# Altium footprint library LIB9封装1.PcbLib: 4 footprints
Each footprint in its own frame and in the unit in brackets; x right, y up, seen from the top. Pads: shape width x height; smd on the part's side, far side on the other; paste and mask are expansions set on the pad; w line width, h text height; cw(c..) or ccw(c..) is an arc to the next point about the centre after c.
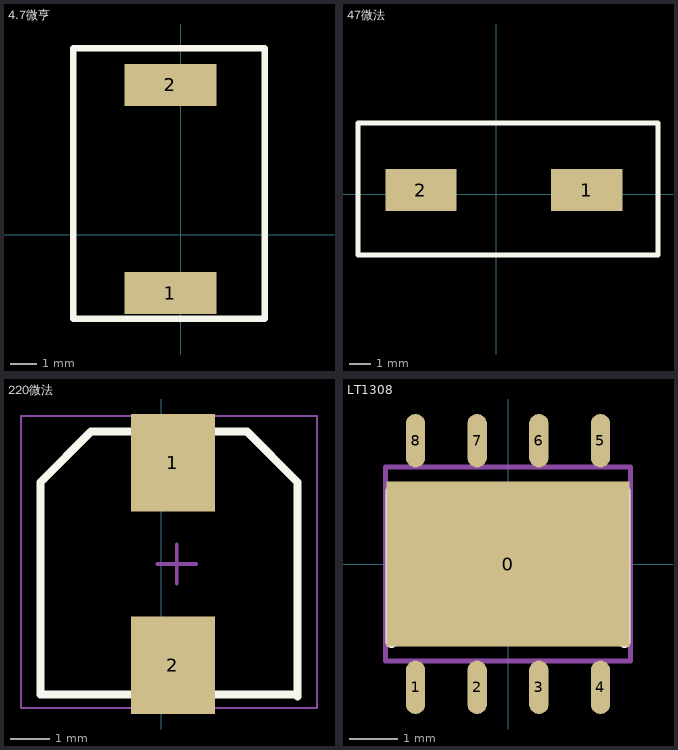
[diagram p0: the footprints below, top view; thin cyan lines are the x and y axes]

## 4.7微亨 [mm]
pads (2):
  rect 3.5x1.6 smd: 1(-0.4,-2.225) 2(-0.4,5.7)
Top Overlay:
  lines w0.254: -4.1,-3.2 -4.1,7.1 -2.275,7.1 1.375,7.1 3.2,7.1 3.2,-3.2 -4.1,-3.2

## 47微法 [mm]
pads (2):
  rect 3.4x2 smd: 1(4.3,0.2) 2(-3.6,0.2)
Top Overlay:
  lines w0.254: -6.6,-2.9 7.7,-2.9 7.7,3.4 -6.6,3.4 -6.6,-2.9

## 220微法 [mm] "Aluminum Electrolytic Capacitor, Body 4.30x4.30x6.30mm, IPC Low Density"
height 6.3
pads (2):
  rect 2.15x2.5 smd: 1(0.3,9.3) 2(0.3,4.1)
Top Overlay:
  lines w0.2: 3.5,3.3 3.5,8.8 2.2,10.1 -1.8,10.1 -3.1,8.8 -3.1,3.35 3.5,3.35
Mechanical 15:
  lines w0.05: -3.6,3 -3.6,10.5 4,10.5 4,3 -3.6,3
  lines w0.1: -0.1,6.7 0.9,6.7 ; 0.4,6.2 0.4,7.2
3D body: height 6.3, standoff 0, extent -3,3.4 3.6,10

## LT1308 [mm]
pads (9):
  rect 5x3.4 smd: 0(0,0)
  oval 0.4x1.1 smd: 1(-1.905,-2.54) 2(-0.635,-2.54) 3(0.635,-2.54) 4(1.905,-2.54) 5(1.905,2.54) 6(0.635,2.54) 7(-0.635,2.54) 8(-1.905,2.54)
Top Overlay:
  lines w0.254: -2.4,-1.6 -2.4,1.5 ; 2.4,-1.6 2.4,1.5
Mechanical 13:
  lines w0.1: -2.525,-1.995 2.525,-1.995 2.525,1.995 -2.525,1.995 -2.525,-1.995